# EAGLE library part CNRP101A (library SOARRSO_CubeSat_OBC_Library)
2 Row Micro Header 1.27p Samtec FTSH-1nn-01-F-D-K
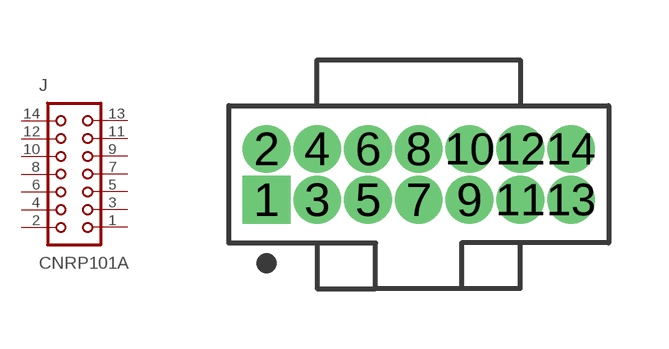
[diagram p3: symbol with the pads of HDRV14W41P127_2X7_FTSH; footprint HDRV14W41P127_2X7_FTSH]

Designator prefix J

## CNRP101A_14M_2ROW_MICRO_HEADER_1.27P (TYPE: 2 ROW MICRO HDR)  [HDRV14W41P127_2X7_FTSH]
1  1  pas
2  2  pas
3  3  pas
4  4  pas
5  5  pas
6  6  pas
7  7  pas
8  8  pas
9  9  pas
10  10  pas
11  11  pas
12  12  pas
13  13  pas
14  14  pas

## Footprint HDRV14W41P127_2X7_FTSH (pad centres in mm)
Double-row, 14-pin Pin Header (Male) Straight, 1.27 mm (0.05 in) row pitch, 1.27 mm (0.05 in) col pitch, 3.05 mm mating length, 8.89 X 3.43 X 5.56 mm body Double-row (2X7), 14-pin Pin Header (Male) Straight package with 1.27 mm (0.05 in) row pitch, 1.27 mm (0.05 in) col pitch, 0.41 mm lead width, 2.30 mm tail length and 3.05 mm mating length with overall size 8.89 X 3.43 X 5.56 mm, pin pattern - zigzag from bottom left
drill 0.686 pad 1.067 square: 1 0,0
drill 0.686 pad 1.067: 2 0,1.27; 3 1.27,0; 4 1.27,1.27; 5 2.54,0; 6 2.54,1.27; 7 3.81,0; 8 3.81,1.27; 9 5.08,0; 10 5.08,1.27; 11 6.35,0; 12 6.35,1.27; 13 7.62,0; 14 7.62,1.27